# Altium integrated library IE0305S.IntLib: 1 symbol
Pins are listed as number, name and electrical type; pins without a type are passive.

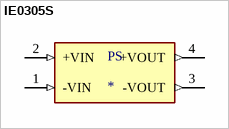
[diagram p0: symbol IE0305S]

## IE0305S
designator PS
Isolated Module DC DC Converter 1 Output 5V 200mA 2.97V - 3.63V Input; MP: IE0305S; MF: XP Power; Value: *; SnapEDA_Link: https://www.snapeda.com/parts/IE0305S/XP%20Power/view-part/3234854/?ref=snap; Availability: Unavailable; Package: SIP-4 XP Power; Price: None
footprint CONV_IE0305S
pins: 1 -VIN (in), 2 +VIN (in), 3 -VOUT (out), 4 +VOUT (out)